# EAGLE library part 71922-116LF (library FCI-tkr)
LATCH HEADER, RIGHT ANGLE
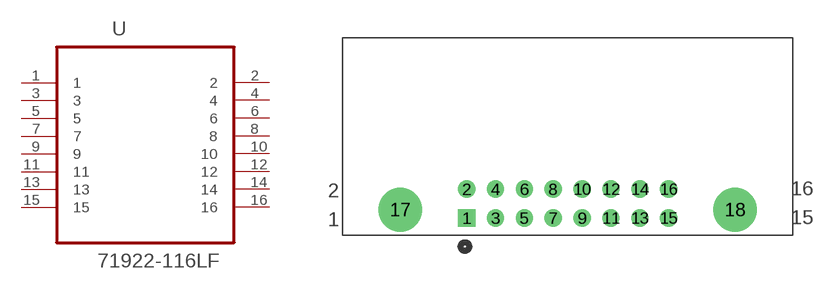
[diagram p37: symbol with the pads of FCI_71922-116LF; footprint FCI_71922-116LF]

Designator prefix U

## 71922-116LF (MPN: 71922-116LF; OC_FARNELL: 1103947; OC_NEWARK: 93K5024; PACKAGE: CON-16 WAYS; SUPPLIER: FCI)  [FCI_71922-116LF]
1  1  pas
2  2  pas
3  3  pas
4  4  pas
5  5  pas
6  6  pas
7  7  pas
8  8  pas
9  9  pas
10  10  pas
11  11  pas
12  12  pas
13  13  pas
14  14  pas
15  15  pas
16  16  pas

## Footprint FCI_71922-116LF (pad centres in mm)
drill 1.016 square: 1 -17.78,-2.54
drill 1.016: 2 -17.78,0; 3 -15.24,-2.54; 4 -15.24,0; 5 -12.7,-2.54; 6 -12.7,0; 7 -10.16,-2.54; 8 -10.16,0; 9 -7.62,-2.54; 10 -7.62,0; 11 -5.08,-2.54; 12 -5.08,0; 13 -2.54,-2.54; 14 -2.54,0; 15 0,-2.54; 16 0,0
drill 2.845: 17 -23.622,-1.803; 18 5.842,-1.803